# Altium footprint library Con Card.PcbLib: 1 footprints
Each footprint in its own frame and in the unit in brackets; x right, y up, seen from the top. Pads: shape width x height; smd on the part's side, far side on the other; paste and mask are expansions set on the pad; w line width, h text height; cw(c..) or ccw(c..) is an arc to the next point about the centre after c.
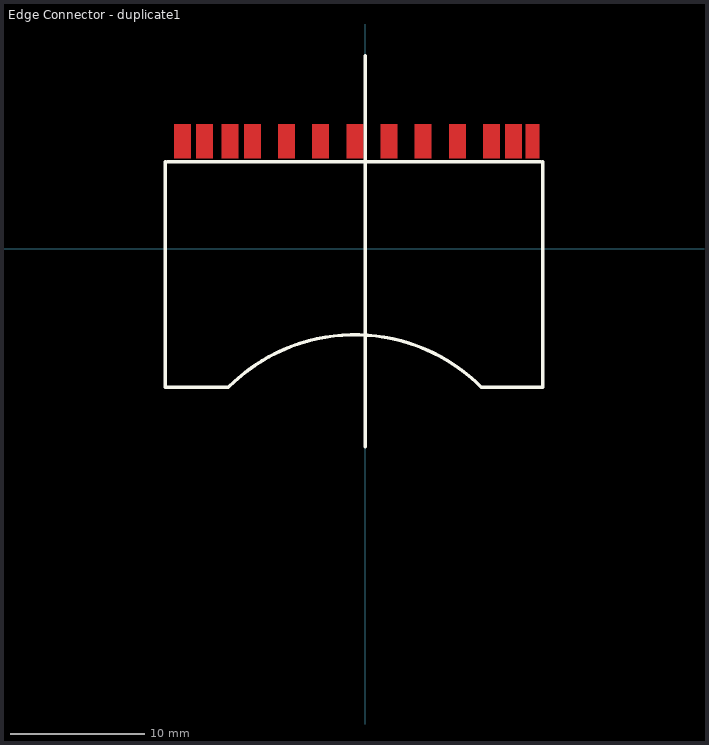
[diagram p0: the footprint, top view; thin cyan lines are the x and y axes]

## Edge Connector - duplicate1 [mm]
Top Layer:
  rectangle: -10.668,6.731 -9.398,9.271
  rectangle: -12.573,6.731 -11.303,9.271
  rectangle: -14.224,6.731 -12.964,8.731
  rectangle: -14.224,6.731 -12.954,9.271
  rectangle: -9.017,6.731 -7.747,9.271
  rectangle: -6.477,6.731 -5.207,9.271
  rectangle: -3.937,6.731 -2.667,9.271
  rectangle: -1.397,6.731 -0.127,9.271
  rectangle: 1.143,6.731 2.413,9.271
  rectangle: 3.683,6.731 4.953,9.271
  rectangle: 6.223,6.731 7.493,9.271
  rectangle: 8.763,6.731 10.033,9.271
  rectangle: 10.414,6.731 11.684,9.271
  rectangle: 11.938,6.731 12.954,9.271
Top Overlay:
  lines w0.254: -14.859,6.477 -14.859,-10.287 -10.16,-10.287 cw(c-0.762,-19.685) 8.636,-10.287 13.208,-10.287 13.208,6.477 ; -14.732,6.477 13.081,6.477 ; 0,-14.732 0,14.351
Drill Drawing:
  circle w0.127: c11.049,4.572 r0.967
  circle w0.127: c-13.462,4.826 r0.967
  lines w0.254: -18.669,-8.001 -14.605,-8.001 -14.605,-5.461 -18.669,-5.461 -18.669,-8.001 ; 12.954,-7.874 12.954,-5.334 17.018,-5.334 17.018,-7.874 12.954,-7.874